# Altium footprint library SMT0603P.PcbLib: 1 footprints
Each footprint in its own frame and in the unit in brackets; x right, y up, seen from the top. Pads: shape width x height; smd on the part's side, far side on the other; paste and mask are expansions set on the pad; w line width, h text height; cw(c..) or ccw(c..) is an arc to the next point about the centre after c.
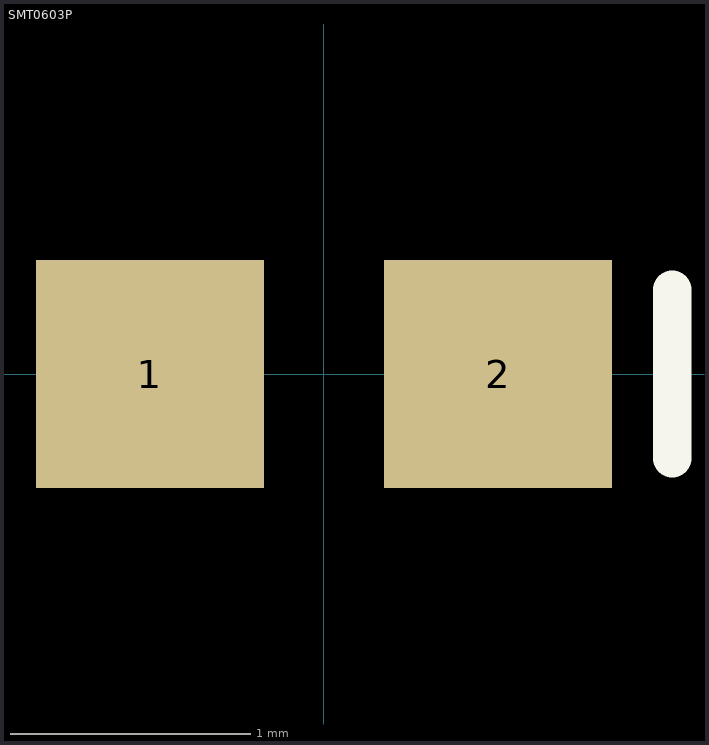
[diagram p0: the footprint, top view; thin cyan lines are the x and y axes]

## SMT0603P [mm] "Polarized 0603 footprint"
height 0.4
pads (2):
  rect 0.95x0.95 smd: 1(-0.725,0) 2(0.725,0)
Top Overlay:
  lines w0.16: 1.45,-0.35 1.45,0.35
3D body: height 2.65, standoff 0, extent -1.012,-0.437 1.013,0.438